# Altium schematic symbol library 贴片电容.SchLib: 2 symbols
Pins are listed as number, name and electrical type; pins without a type are passive.

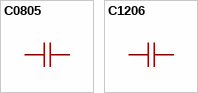
[diagram p0: symbols C0805 to C1206]

## C0805
designator C?, comment 4.7uF  (value not drawn)
Manufacturer: SAMSUNG(三星); Symbol: CL21A475KAQNNNE; Add into BOM: yes; Tolerance: ±10%; Voltage Rated: 25V; Temperature Coefficient: X5R; Device: CL21A475KAQNNNE; LCSC Part Name: 4.7uF ±10% 25V; Supplier Part: C1779; Manufacturer Part: CL21A475KAQNNNE; Supplier Footprint: 0805; JLCPCB Part Class: Basic Part; Datasheet: https://atta.szlcsc.com/upload/public/pdf/source/20160218/1457707763339.pdf; Supplier: LCSC; Convert to PCB: yes; Value: 4.7uF
footprint C0805
pins: 1, 2

## C1206
designator C?, comment 22uF  (value not drawn)
Manufacturer: SAMSUNG(三星); Symbol: CL31A226KPHNNNE; Add into BOM: yes; Tolerance: ±10%; Voltage Rated: 10V; Temperature Coefficient: X5R; Device: CL31A226KPHNNNE; LCSC Part Name: 22uF ±10% 10V; Supplier Part: C5672; Manufacturer Part: CL31A226KPHNNNE; Supplier Footprint: 1206; JLCPCB Part Class: Extended Part; Datasheet: https://atta.szlcsc.com/upload/public/pdf/source/20171115/C5672_15107278524311120028.pdf; Supplier: LCSC; Convert to PCB: yes; Value: 22uF
footprint C1206
pins: 1, 2